# EAGLE library part ADXL335 (library ADXLxxx)
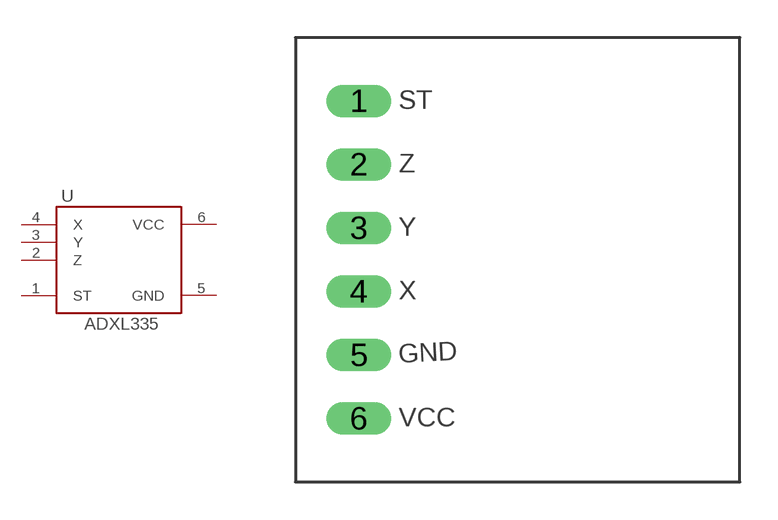
[diagram p0: symbol with the pads of ADXL335; footprint ADXL335]

Designator prefix -

## ADXL335  [ADXL335]
1  ST
2  Z
3  Y
4  X
5  GND  pwr
6  VCC  pwr

## Footprint ADXL335 (pad centres in mm)
drill 0.8 long: 1 -6.35,6.35; 2 -6.35,3.81; 3 -6.35,1.27; 4 -6.35,-1.27; 5 -6.35,-3.81; 6 -6.35,-6.35